# EAGLE library part HRS-A3C-16DA (library _RoweTel)
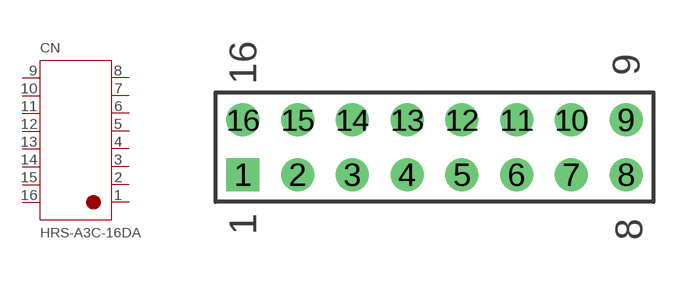
[diagram p67: symbol with the pads of HRS-A3C-16DA; footprint HRS-A3C-16DA]

Designator prefix CN

## HRS-A3C-16DA  [HRS-A3C-16DA]
1  1
2  2
3  3
4  4
5  5
6  6
7  7
8  8
9  9
10  10
11  11
12  12
13  13
14  14
15  15
16  P16

## Footprint HRS-A3C-16DA (pad centres in mm)
drill 0.7 square: 1 -7,-1
drill 0.7: 2 -5,-1; 3 -3,-1; 4 -1,-1; 5 1,-1; 6 3,-1; 7 5,-1; 8 7,-1; 9 7,1; 10 5,1; 11 3,1; 12 1,1; 13 -1,1; 14 -3,1; 15 -5,1; 16 -7,1